# Altium integrated library Altera Arria V GZ.IntLib: 32 symbols (part 18 of 36)
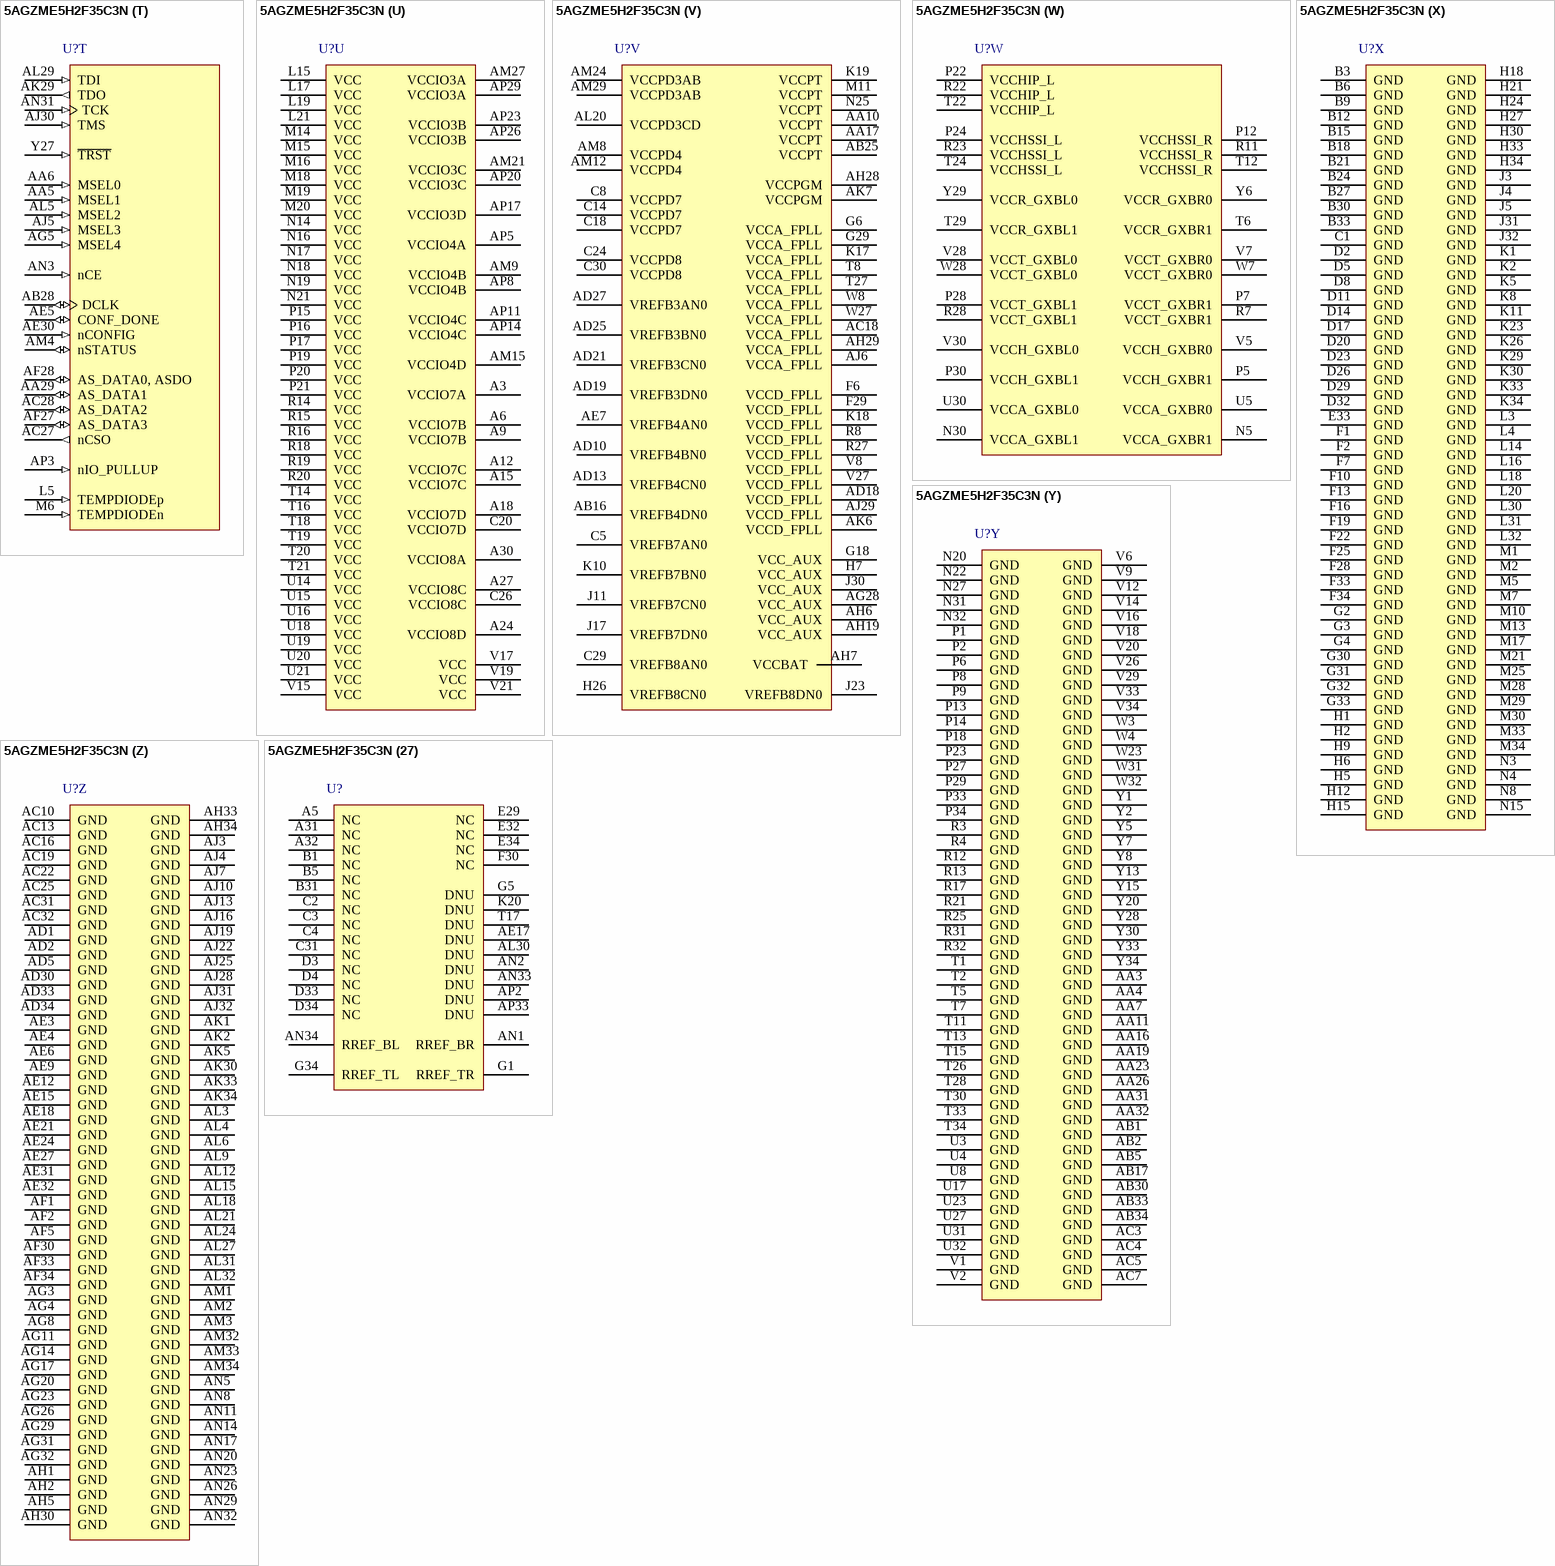
[diagram p317: symbol 5AGZME5H2F35C3N]

# Altium integrated library Altera Arria V GZ.IntLib: 32 symbols (continued)
part X pins: B3 GND (power), B6 GND (power), B9 GND (power), B12 GND (power), B15 GND (power), B18 GND (power), B21 GND (power), B24 GND (power), B27 GND (power), B30 GND (power), B33 GND (power), C1 GND (power), D2 GND (power), D5 GND (power), D8 GND (power), D11 GND (power), D14 GND (power), D17 GND (power), D20 GND (power), D23 GND (power), D26 GND (power), D29 GND (power), D32 GND (power), E33 GND (power), F1 GND (power), F2 GND (power), F7 GND (power), F10 GND (power), F13 GND (power), F16 GND (power), F19 GND (power), F22 GND (power), F25 GND (power), F28 GND (power), F33 GND (power), F34 GND (power), G2 GND (power), G3 GND (power), G4 GND (power), G30 GND (power), G31 GND (power), G32 GND (power), G33 GND (power), H1 GND (power), H2 GND (power), H5 GND (power), H6 GND (power), H9 GND (power), H12 GND (power), H15 GND (power), H18 GND (power), H21 GND (power), H24 GND (power), H27 GND (power), H30 GND (power), H33 GND (power), H34 GND (power), J3 GND (power), J4 GND (power), J5 GND (power), J31 GND (power), J32 GND (power), K1 GND (power), K2 GND (power), K5 GND (power), K8 GND (power), K11 GND (power), K23 GND (power), K26 GND (power), K29 GND (power), K30 GND (power), K33 GND (power), K34 GND (power), L3 GND (power), L4 GND (power), L14 GND (power), L16 GND (power), L18 GND (power), L20 GND (power), L30 GND (power), L31 GND (power), L32 GND (power), M1 GND (power), M2 GND (power), M5 GND (power), M7 GND (power), M10 GND (power), M13 GND (power), M17 GND (power), M21 GND (power), M25 GND (power), M28 GND (power), M29 GND (power), M30 GND (power), M33 GND (power), M34 GND (power), N3 GND (power), N4 GND (power), N8 GND (power), N15 GND (power)